# Altium footprint library pulse control.PcbLib: 23 footprints (part 2 of 2)
Each footprint in its own frame and in the unit in brackets; x right, y up, seen from the top. Pads: shape width x height; smd on the part's side, far side on the other; paste and mask are expansions set on the pad; w line width, h text height; cw(c..) or ccw(c..) is an arc to the next point about the centre after c.
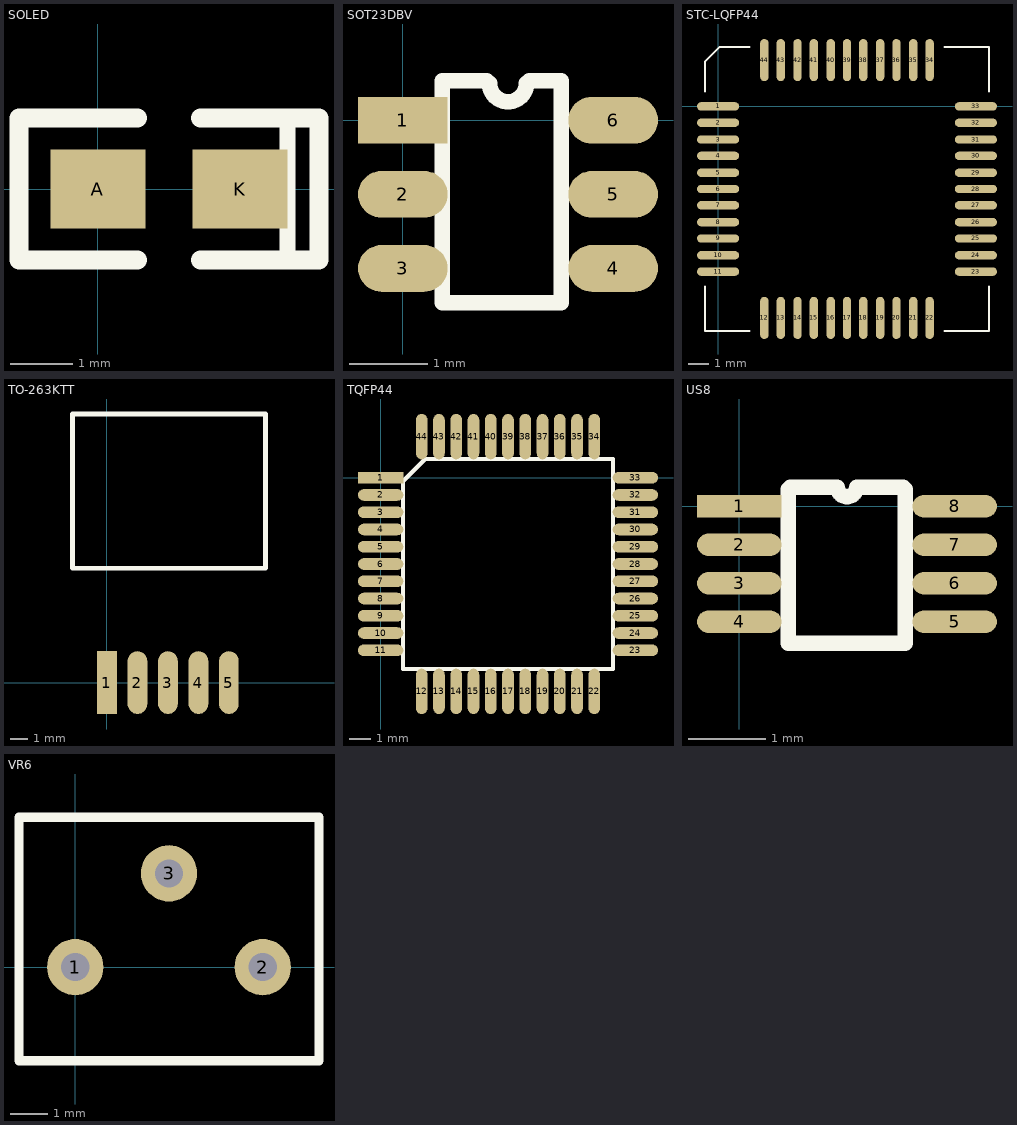
[diagram p1: the footprints below, top view; thin cyan lines are the x and y axes]

## SOLED [mil]
pads (2):
  rect 60x50 smd: A(0,0) K(90,0)
Top Overlay:
  lines w10: 120,-40 120,40
  lines w12: 25,-45 -50,-45 -50,45 25,45 ; 65,-45 140,-45 140,45 65,45

## SOT23DBV [mm]
pads (6):
  rect 1.15x0.6 smd: 1(0,0)
  oval 1.15x0.6 smd: 2(0,-0.95) 3(0,-1.9) 4(2.7,-1.9) 5(2.7,-0.95) 6(2.7,0)
Top Overlay:
  lines w0.2: 1.079,0.508 0.508,0.508 0.508,-2.342 2.032,-2.342 2.032,0.508 1.62,0.508 ; 1.113,0.475 ccw(c1.35,0.475) 1.587,0.475

## STC-LQFP44 [mil]
pads (44):
  oval 80x16 smd: 1(0,0) 2(0,-31) 3(0,-63) 4(0,-94) 5(0,-126) 6(0,-157) 7(0,-188) 8(0,-220) 9(0,-251) 10(0,-283) 11(0,-314) 23(490,-314) 24(490,-283) 25(490,-251) 26(490,-220) 27(490,-188) 28(490,-157) 29(490,-126) 30(490,-94) 31(490,-63) 32(490,-31) 33(490,0)
  oval 16x80 smd: 12(88,-402) 13(119,-402) 14(151,-402) 15(182,-402) 16(214,-402) 17(245,-402) 18(276,-402) 19(308,-402) 20(339,-402) 21(371,-402) 22(402,-402) 34(402,88) 35(371,88) 36(339,88) 37(308,88) 38(276,88) 39(245,88) 40(214,88) 41(182,88) 42(151,88) 43(119,88) 44(88,88)
Top Overlay:
  lines w4: -25,-342 -25,-427 60,-427 ; -25,28 -25,85 3,113 60,113 ; 430,-427 515,-427 515,-342 ; 430,113 515,113 515,28

## TO-263KTT [mm]
pads (5):
  rect 1.1x3.5 smd: 1(0,0)
  oval 1.1x3.5 smd: 2(1.7,0) 3(3.4,0) 4(5.1,0) 5(6.8,0)
Top Overlay:
  lines w0.254: -1.92,6.378 3.429,6.378 8.842,6.378 8.842,14.978 -1.92,14.978 -1.92,6.378

## TQFP44 [mm]
pads (44):
  rect 2.1x0.54 smd: 1(0,0)
  oval 2.1x0.54 smd: 2(0,-0.8) 3(0,-1.6) 4(0,-2.4) 5(0,-3.2) 6(0,-4) 7(0,-4.8) 8(0,-5.6) 9(0,-6.4) 10(0,-7.2) 11(0,-8) 23(11.8,-8) 24(11.8,-7.2) 25(11.8,-6.4) 26(11.8,-5.6) 27(11.8,-4.8) 28(11.8,-4) 29(11.8,-3.2) 30(11.8,-2.4) 31(11.8,-1.6) 32(11.8,-0.8) 33(11.8,0)
  oval 0.54x2.1 smd: 12(1.9,-9.9) 13(2.7,-9.9) 14(3.5,-9.9) 15(4.3,-9.9) 16(5.1,-9.9) 17(5.9,-9.9) 18(6.7,-9.9) 19(7.5,-9.9) 20(8.3,-9.9) 21(9.1,-9.9) 22(9.9,-9.9) 34(9.9,1.9) 35(9.1,1.9) 36(8.3,1.9) 37(7.5,1.9) 38(6.7,1.9) 39(5.9,1.9) 40(5.1,1.9) 41(4.3,1.9) 42(3.5,1.9) 43(2.7,1.9) 44(1.9,1.9)
Top Overlay:
  lines w0.2: 1.035,-8.865 10.765,-8.865 10.765,0.865 2.07,0.865 1.035,-0.17 1.035,-8.865

## US8 [mm]
pads (8):
  rect 1.1x0.29 smd: 1(0,0)
  oval 1.1x0.29 smd: 2(0,-0.5) 3(0,-1) 4(0,-1.5) 5(2.8,-1.5) 6(2.8,-1) 7(2.8,-0.5) 8(2.8,0)
Top Overlay:
  lines w0.2: 0.635,0.222 0.635,-1.778 2.159,-1.778 2.159,0.222 ; 0.663,0.25 1.275,0.25 ccw(c1.4,0.25) 1.525,0.25 2.131,0.25

## VR6 [mil]
pads (3):
  round 60 hole 30: 1(0,0) 2(200,0) 3(100,100)
Top Overlay:
  lines w10: -60,-100 260,-100 260,-80 260,160 -60,160 -60,-80 -60,-100